# Altium footprint library 0039300040.PcbLib: 1 footprints
Each footprint in its own frame and in the unit in brackets; x right, y up, seen from the top. Pads: shape width x height; smd on the part's side, far side on the other; paste and mask are expansions set on the pad; w line width, h text height; cw(c..) or ccw(c..) is an arc to the next point about the centre after c.
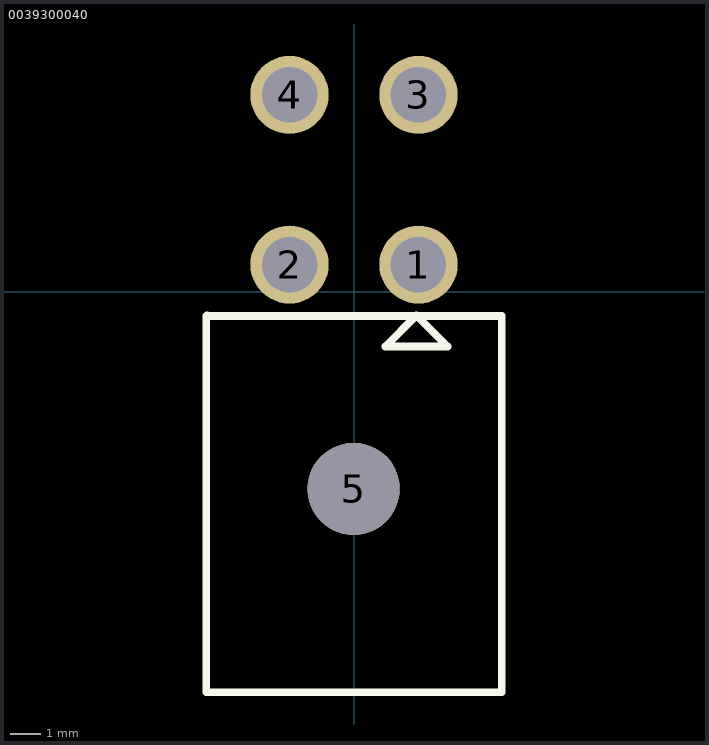
[diagram p0: the footprint, top view; thin cyan lines are the x and y axes]

## 0039300040 [mil] "Molex Minifit 4 Pin"
pads (5):
  round 100 hole 71: 1(82.5,35) 2(-82.5,35) 3(82.5,252) 4(-82.5,252)
  round 118 hole 118 unplated: 5(-0.5,-252)
Top Overlay:
  lines w10: -188,-30 -189,-31 ; 80,-30 40,-70 120,-70 81,-31 ; -189,-31 189,-31 189,-512 -189,-512 -189,-31
3D body "649004227222_Download_STP_649004227222_rev1.stp": height 450.79, standoff -135.83, extent -194.88,-507.87 194.72,278.35